# EAGLE library part C-GRID-08 (library MolexConnector)
CONNECTOR wire to board 2.54 mm (0.100") pitch header
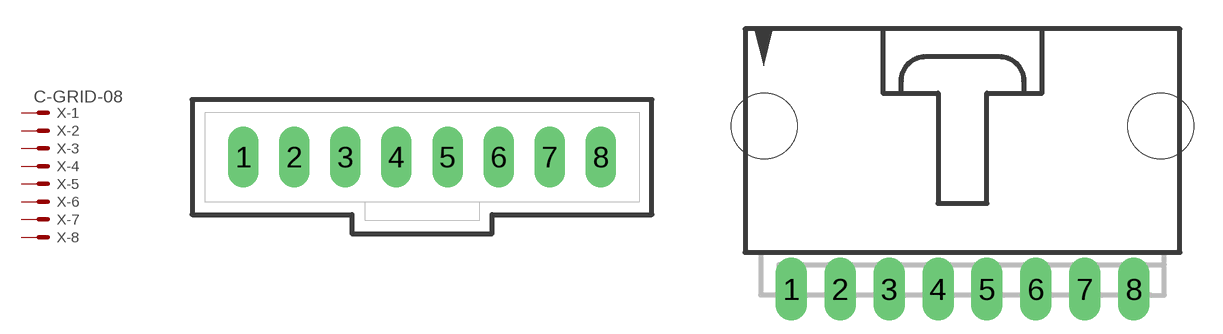
[diagram p0: symbol with the pads of 70543-08; footprints 70543-08, 70555-08]

Designator prefix X; gates -1=MV -2=M -3=M -4=M -5=M -6=M -7=M -8=M

## C-GRID-08-70543 (OC_FARNELL: unknown; OC_NEWARK: unknown)  [70543-08]
1  -1:S  pas
2  -2:S  pas
3  -3:S  pas
4  -4:S  pas
5  -5:S  pas
6  -6:S  pas
7  -7:S  pas
8  -8:S  pas

## C-GRID-08-70553 (OC_FARNELL: unknown; OC_NEWARK: unknown)  [70555-08]
Pads as for 70543-08

## C-GRID-08-74099 (OC_FARNELL: unknown; OC_NEWARK: unknown)  [74099-08]
Pads as for 70543-08

## C-GRID-08-15-91 (OC_FARNELL: unknown; OC_NEWARK: unknown)  [15-91-08]
Pads as for 70543-08

## Footprint 70543-08 (pad centres in mm)
C-Grid SL Connector vertical, 8 pin
drill 1.016 long: 1 -8.89,0; 2 -6.35,0; 3 -3.81,0; 4 -1.27,0; 5 1.27,0; 6 3.81,0; 7 6.35,0; 8 8.89,0

## Footprint 70555-08 (pad centres in mm)
C-Grid SL Connector right angle, 8 pin
drill 1.092 long: 1 -8.89,-7.62; 2 -6.35,-7.62; 3 -3.81,-7.62; 4 -1.27,-7.62; 5 1.27,-7.62; 6 3.81,-7.62; 7 6.35,-7.62; 8 8.89,-7.62
hole 3.404 at -10.287,0.838
hole 3.404 at 10.287,0.838

## Footprint 74099-08 (pad centres in mm)
C-Grid SL Connector vertical SMD, 8 pin
smd 1.27 x 3.175: 1 -8.89,-2.223; 2 -6.35,2.223; 3 -3.81,-2.223; 4 -1.27,2.223; 5 1.27,-2.223; 6 3.81,2.223; 7 6.35,-2.223; 8 8.89,2.223

## Footprint 15-91-08 (pad centres in mm)
C-Grid SL Connector right angle SMD, 8 pin
smd 1.651 x 5.334: 1 -8.89,-10.795; 2 -6.35,-10.795; 3 -3.81,-10.795; 4 -1.27,-10.795; 5 1.27,-10.795; 6 3.81,-10.795; 7 6.35,-10.795; 8 8.89,-10.795
hole 3.404 at -10.287,0.838
hole 3.404 at 10.287,0.838